# Altium footprint library IND_ASPI-0630LR-150M-T15.PcbLib: 1 footprints
Each footprint in its own frame and in the unit in brackets; x right, y up, seen from the top. Pads: shape width x height; smd on the part's side, far side on the other; paste and mask are expansions set on the pad; w line width, h text height; cw(c..) or ccw(c..) is an arc to the next point about the centre after c.
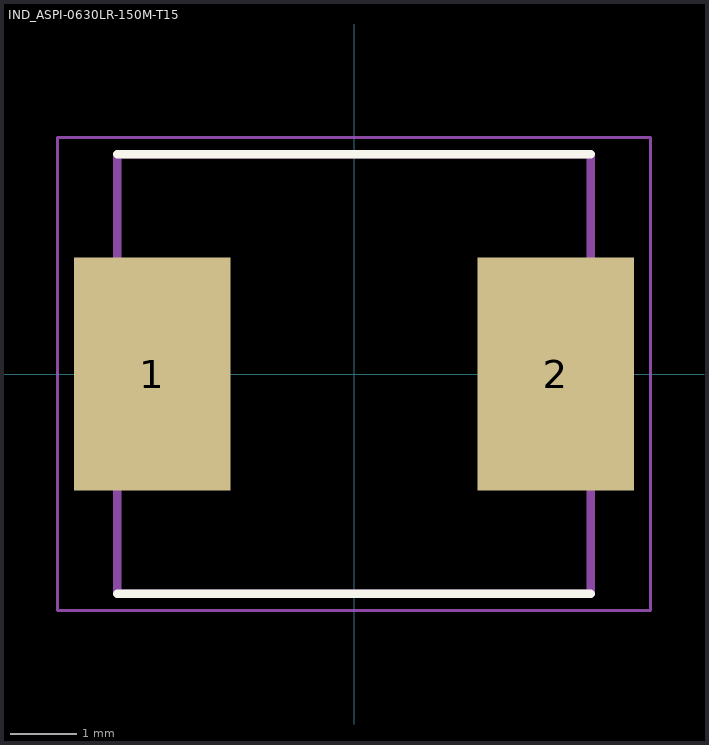
[diagram p0: the footprint, top view; thin cyan lines are the x and y axes]

## IND_ASPI-0630LR-150M-T15 [mm]
height 3
pads (2):
  rect 2.35x3.5 smd: 1(-3.025,0) 2(3.025,0)
Top Overlay:
  lines w0.127: -3.55,-3.3 3.55,-3.3 ; -3.55,3.3 3.55,3.3
Mechanical 13:
  lines w0.127: -3.55,-3.3 3.55,-3.3 3.55,3.3 -3.55,3.3 -3.55,-3.3
Mechanical 15:
  lines w0.05: -4.45,-3.55 4.45,-3.55 4.45,3.55 -4.45,3.55 -4.45,-3.55
3D body "step_temp.STEP": height 3.03, standoff 0.03, extent -3.6,-3.325 3.6,3.325